# Altium footprint library ESQ-106-Y-X-D.PcbLib: 1 footprints
Each footprint in its own frame and in the unit in brackets; x right, y up, seen from the top. Pads: shape width x height; smd on the part's side, far side on the other; paste and mask are expansions set on the pad; w line width, h text height; cw(c..) or ccw(c..) is an arc to the next point about the centre after c.
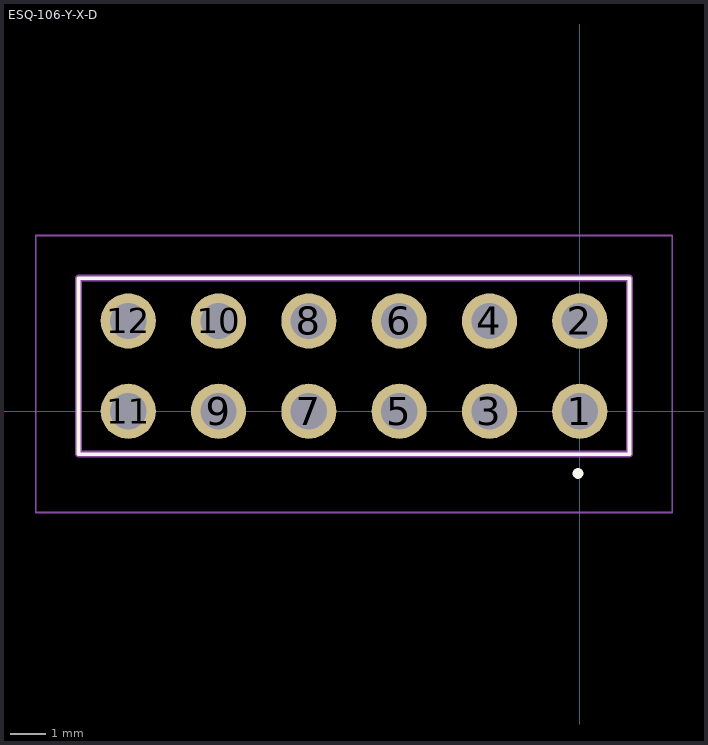
[diagram p0: the footprint, top view; thin cyan lines are the x and y axes]

## ESQ-106-Y-X-D [mm]
pads (12):
  round 1.55 hole 1.02: 1(0,0) 2(0,2.54) 3(-2.54,0) 4(-2.54,2.54) 5(-5.08,0) 6(-5.08,2.54) 7(-7.62,0) 8(-7.62,2.54) 9(-10.16,0) 10(-10.16,2.54) 11(-12.7,0) 12(-12.7,2.54)
Top Overlay:
  circle w0.2: c-0.05,-1.75 r0.05
  lines w0.1: -14.1,-1.205 1.4,-1.205 1.4,3.745 -14.1,3.745 -14.1,-1.205
Mechanical 15:
  lines w0.2: -14.1,-1.205 1.4,-1.205 1.4,3.745 -14.1,3.745 -14.1,-1.205
Mechanical 20:
  lines w0.05: -15.3,-2.85 2.6,-2.85 2.6,4.945 -15.3,4.945 -15.3,-2.85